# Altium schematic symbol library LSM6DSMTR.SchLib: 1 symbol
Pins are listed as number, name and electrical type; pins without a type are passive.

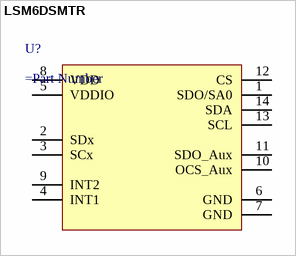
[diagram p0: symbol LSM6DSMTR]

## LSM6DSMTR
designator U?
=Description
pins: 1 SDO/SA0, 2 SDx, 3 SCx, 4 INT1, 5 VDDIO (power), 6 GND (power), 7 GND (power), 8 VDD (power), 9 INT2, 10 OCS_Aux, 11 SDO_Aux, 12 CS, 13 SCL, 14 SDA